# Altium schematic symbol library Inductors.SchLib: 5 symbols
Pins are listed as number, name and electrical type; pins without a type are passive.

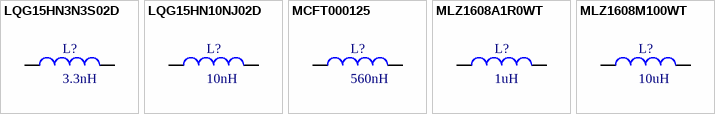
[diagram p0: symbols LQG15HN3N3S02D to MLZ1608M100WT]

## LQG15HN3N3S02D
designator L?, comment 3.3nH
High Frequency Inductor, LQG15HN Series, 3.3 nH, 300 mA, 0402; Value: 3.3nH
footprint INDC0402
pins: 1, 2

## LQG15HN10NJ02D
designator L?, comment 10nH
High Frequency Inductor, LQG15HN Series, 10 nH, 300 mA, 0402; Value: 10nH
footprint INDC0402
pins: 1, 2

## MCFT000125
designator L?, comment 560nH
High Frequency Inductor, MCFT Series, 560 nH, 230 mA, 0805; Value: 560nH
footprint INDC0805
pins: 1, 2

## MLZ1608A1R0WT
designator L?, comment 1uH
High Frequency Inductor, MLZ Series, 1 µH, 600 mA, 0603; Value: 1uH
footprint INDC0603
pins: 1, 2

## MLZ1608M100WT
designator L?, comment 10uH
High Frequency Inductor, MLZ Series, 10 µH, 250 mA, 0603; Value: 10uH
footprint INDC0603
pins: 1, 2